# EAGLE library part CMWX1ZZABZ (library FaBo-LoRa)
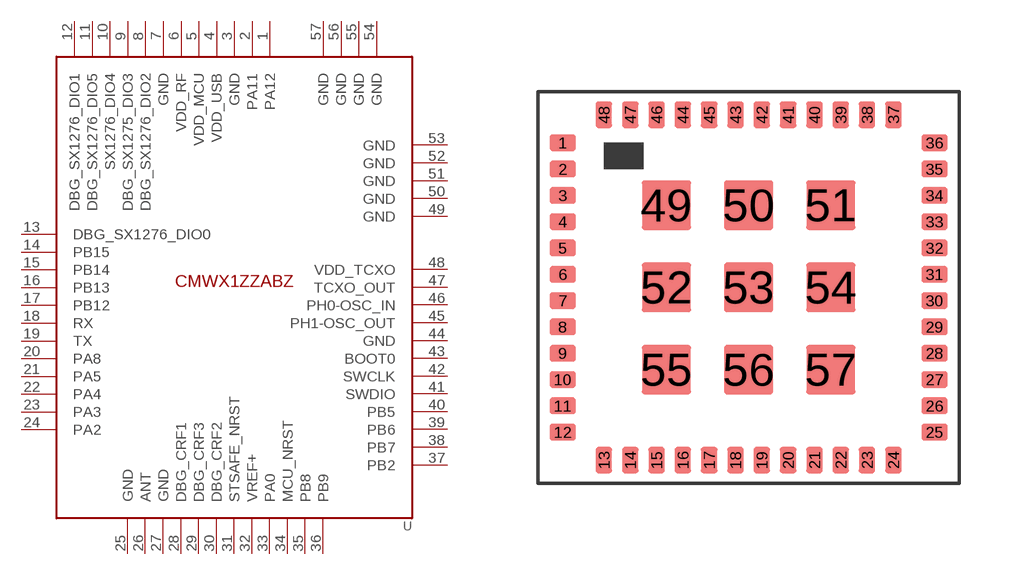
[diagram p2: symbol with the pads of CMWX1ZZABZ; footprint CMWX1ZZABZ]

Designator prefix U

## CMWX1ZZABZ  [CMWX1ZZABZ]
1  PA12
2  PA11
3  GND
4  VDD_USB
5  VDD_MCU
6  VDD_RF
7  GND
8  DBG_SX1276_DIO2
9  DBG_SX1275_DIO3
10  SX1276_DIO4
11  DBG_SX1276_DIO5
12  DBG_SX1276_DIO1
13  DBG_SX1276_DIO0
14  PB15
15  PB14
16  PB13
17  PB12
18  RX
19  TX
20  PA8
21  PA5
22  PA4
23  PA3
24  PA2
25  GND
26  ANT
27  GND
28  DBG_CRF1
29  DBG_CRF3
30  DBG_CRF2
31  STSAFE_NRST
32  VREF+
33  PA0
34  MCU_NRST
35  PB8
36  PB9
37  PB2
38  PB7
39  PB6
40  PB5
41  SWDIO
42  SWCLK
43  BOOT0
44  GND
45  PH1-OSC_OUT
46  PH0-OSC_IN
47  TCXO_OUT
48  VDD_TCXO
49  GND
50  GND
51  GND
52  GND
53  GND
54  GND
55  GND
56  GND
57  GND

## Footprint CMWX1ZZABZ (pad centres in mm)
smd 0.8 x 0.5: 1 -5.65,4.4; 2 -5.65,3.6; 3 -5.65,2.8; 4 -5.65,2; 5 -5.65,1.2; 6 -5.65,0.4; 7 -5.65,-0.4; 8 -5.65,-1.2; 9 -5.65,-2; 10 -5.65,-2.8; 11 -5.65,-3.6; 12 -5.65,-4.4; 25 5.65,-4.4; 26 5.65,-3.6; 27 5.65,-2.8; 28 5.65,-2; 29 5.65,-1.2; 30 5.65,-0.4; 31 5.65,0.4; 32 5.65,1.2; 33 5.65,2; 34 5.65,2.8; 35 5.65,3.6; 36 5.65,4.4
smd 0.5 x 0.8: 13 -4.4,-5.25; 14 -3.6,-5.25; 15 -2.8,-5.25; 16 -2,-5.25; 17 -1.2,-5.25; 18 -0.4,-5.25; 19 0.4,-5.25; 20 1.2,-5.25; 21 2,-5.25; 22 2.8,-5.25; 23 3.6,-5.25; 24 4.4,-5.25; 37 4.4,5.25; 38 3.6,5.25; 39 2.8,5.25; 40 2,5.25; 41 1.2,5.25; 42 0.4,5.25; 43 -0.4,5.25; 44 -2,5.25; 45 -1.2,5.25; 46 -2.8,5.25; 47 -3.6,5.25; 48 -4.4,5.25
smd 1.5 x 1.5: 49 -2.5,2.5; 50 0,2.5; 51 2.5,2.5; 52 -2.5,0; 53 0,0; 54 2.5,0; 55 -2.5,-2.5; 56 0,-2.5; 57 2.5,-2.5